# Altium footprint library SnapEDApcb.PcbLib: 1 footprints
Each footprint in its own frame and in the unit in brackets; x right, y up, seen from the top. Pads: shape width x height; smd on the part's side, far side on the other; paste and mask are expansions set on the pad; w line width, h text height; cw(c..) or ccw(c..) is an arc to the next point about the centre after c.
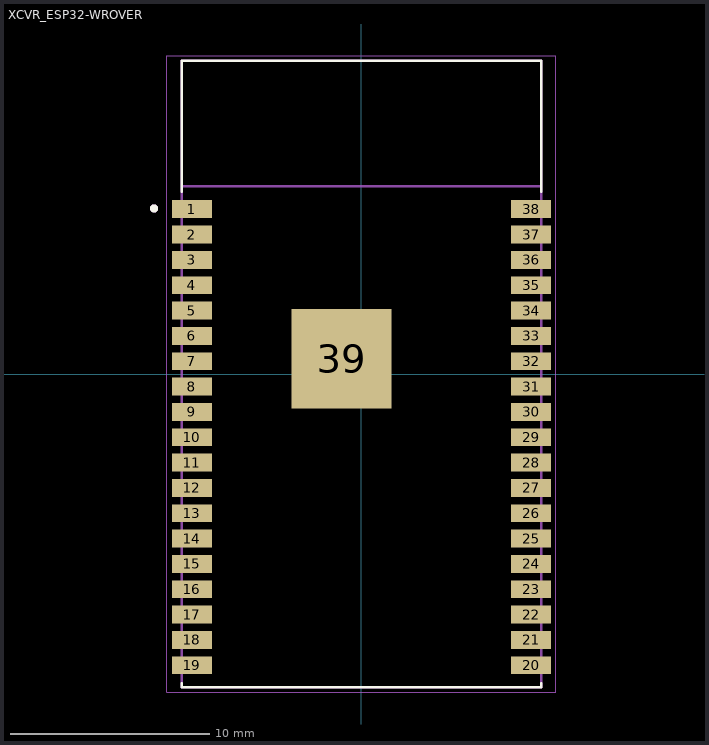
[diagram p0: the footprint, top view; thin cyan lines are the x and y axes]

## XCVR_ESP32-WROVER [mm]
pads (39):
  rect 2x0.9 smd: 1(-8.5,8.26) 2(-8.5,6.99) 3(-8.5,5.72) 4(-8.5,4.45) 5(-8.5,3.18) 6(-8.5,1.91) 7(-8.5,0.64) 8(-8.5,-0.63) 9(-8.5,-1.9) 10(-8.5,-3.17) 11(-8.5,-4.44) 12(-8.5,-5.71) 13(-8.5,-6.98) 14(-8.5,-8.25) 15(-8.5,-9.52) 16(-8.5,-10.79) 17(-8.5,-12.06) 18(-8.5,-13.33) 19(-8.5,-14.6) 20(8.5,-14.6) 21(8.5,-13.33) 22(8.5,-12.06) 23(8.5,-10.79) 24(8.5,-9.52) 25(8.5,-8.25) 26(8.5,-6.98) 27(8.5,-5.71) 28(8.5,-4.44) 29(8.5,-3.17) 30(8.5,-1.9) 31(8.5,-0.63) 32(8.5,0.64) 33(8.5,1.91) 34(8.5,3.18) 35(8.5,4.45) 36(8.5,5.72) 37(8.5,6.99) 38(8.5,8.26)
  rect 5x5 smd paste-3 mask+0: 39(-1,0.76)
Top Overlay:
  circle w0.2: c-10.4,8.3 r0.1
  lines w0.127: -9,-15.5 -9,-15.7 9,-15.7 9,-15.5 ; -9,9.13 -9,15.7 9,15.7 9,9.13
Top Paste:
  region: -0.335,0.095 -1.665,0.095 -1.665,1.425 -0.335,1.425
  region: -2.17,0.095 -3.5,0.095 -3.5,1.425 -2.17,1.425
  region: 1.5,0.095 0.17,0.095 0.17,1.425 1.5,1.425
  region: 1.5,1.93 0.17,1.93 0.17,3.26 1.5,3.26
  region: -0.335,1.93 -1.665,1.93 -1.665,3.26 -0.335,3.26
  region: -2.17,1.93 -3.5,1.93 -3.5,3.26 -2.17,3.26
  region: -2.17,-1.74 -3.5,-1.74 -3.5,-0.41 -2.17,-0.41
  region: -0.335,-1.74 -1.665,-1.74 -1.665,-0.41 -0.335,-0.41
  region: 1.5,-1.74 0.17,-1.74 0.17,-0.41 1.5,-0.41
Top Solder:
  region: -0.335,0.095 -1.665,0.095 -1.665,1.425 -0.335,1.425
  region: -2.17,0.095 -3.5,0.095 -3.5,1.425 -2.17,1.425
  region: 1.5,0.095 0.17,0.095 0.17,1.425 1.5,1.425
  region: 1.5,1.93 0.17,1.93 0.17,3.26 1.5,3.26
  region: -0.335,1.93 -1.665,1.93 -1.665,3.26 -0.335,3.26
  region: -2.17,1.93 -3.5,1.93 -3.5,3.26 -2.17,3.26
  region: -2.17,-1.74 -3.5,-1.74 -3.5,-0.41 -2.17,-0.41
  region: -0.335,-1.74 -1.665,-1.74 -1.665,-0.41 -0.335,-0.41
  region: 1.5,-1.74 0.17,-1.74 0.17,-0.41 1.5,-0.41
Mechanical 13:
  circle w0.2: c-10.4,8.3 r0.1
  lines w0.127: -9,9.4 -9,-15.7 9,-15.7 9,9.4 ; -9,9.4 -9,15.7 9,15.7 9,9.4 ; -9,9.4 9,9.4
  text "ANTENNA" at -3.7,11.9 h1.27
Mechanical 15:
  lines w0.05: -9.75,-15.95 -9.75,15.95 9.75,15.95 9.75,-15.95 -9.75,-15.95